# Altium schematic symbol library BK-18650-PC1.SchLib: 1 symbol
Pins are listed as number, name and electrical type; pins without a type are passive.

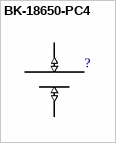
[diagram p0: symbol BK-18650-PC4]

## BK-18650-PC4
designator ?  (value not drawn)
Holder Batt Li-Ion 2cell 4pc Pin; MF: MPD; MP: BK-18650-PC4; Availability: Good; Package: None; Price: 3.37 USD; Value: *
footprint 18650-PC4_BK-18650-PC4(Primary)
pins: +1 (io), -1 (io)